# EAGLE library part 2X5_THM (library myFab)
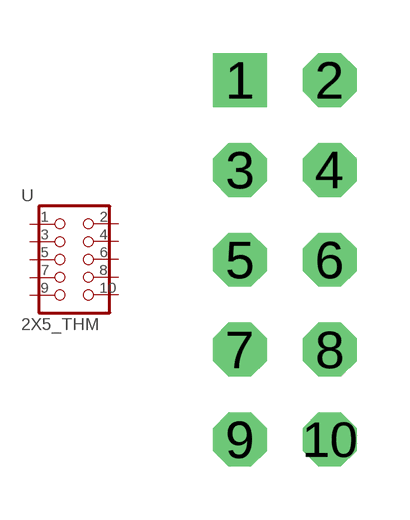
[diagram p35: symbol with the pads of 2X5_THM; footprint 2X5_THM]

Designator prefix -

## 2X5_THM  [2X5_THM]
1  1  pas
2  2  pas
3  3  pas
4  4  pas
5  5  pas
6  6  pas
7  7  pas
8  8  pas
9  9  pas
10  10  pas

## Footprint 2X5_THM (pad centres in mm)
PIN HEADER
drill 1.016 square: 1 -1.27,2.54
drill 1.016 octagon: 2 1.27,2.54; 3 -1.27,0; 4 1.27,0; 5 -1.27,-2.54; 6 1.27,-2.54; 7 -1.27,-5.08; 8 1.27,-5.08; 9 -1.27,-7.62; 10 1.27,-7.62